# Altium footprint library MainLibrary.PcbLib: 35 footprints (part 1 of 3)
Each footprint in its own frame and in the unit in brackets; x right, y up, seen from the top. Pads: shape width x height; smd on the part's side, far side on the other; paste and mask are expansions set on the pad; w line width, h text height; cw(c..) or ccw(c..) is an arc to the next point about the centre after c.
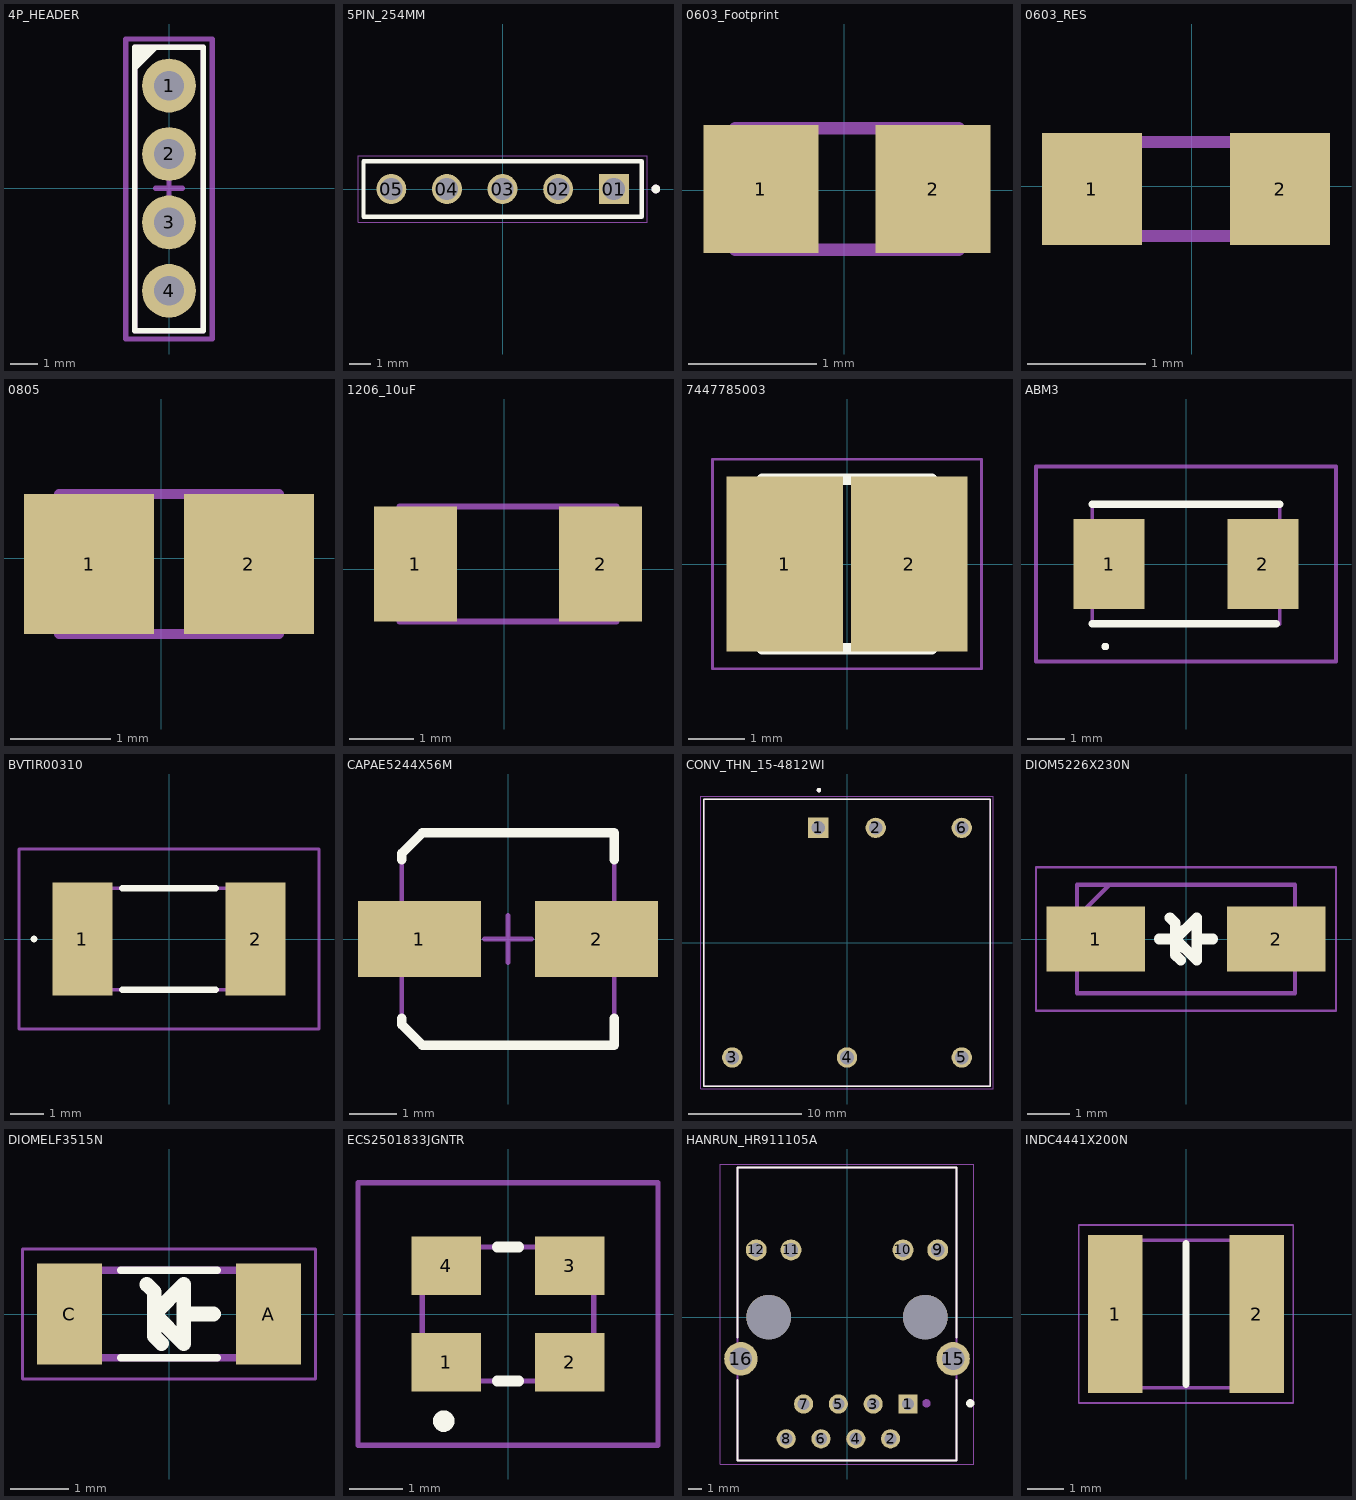
[diagram p0: the footprints below, top view; thin cyan lines are the x and y axes]

## 4P_HEADER [mm]
pads (4):
  round 2 hole 1.1: 1(0,3.809) 2(0,1.269) 3(0,-1.271) 4(0,-3.811)
Top Overlay:
  region: -1.23,5.269 -1.23,4.369 -0.33,5.269
  lines w0.2: -1.27,-5.301 -1.27,5.239 1.27,5.239 1.27,-5.301 -1.27,-5.301
Top Courtyard:
  lines w0.2: -1.6,-5.601 -1.6,5.539 1.6,5.539 1.6,-5.601 -1.6,-5.601
Top Assembly:
  lines w0.2: -0.5,-0.001 0.5,-0.001 ; 0,-0.501 0,0.499 ; -1.27,-5.301 -1.27,5.239 1.27,5.239 1.27,-5.301 -1.27,-5.301
3D body "M20-7820442.step": height 8.5, standoff -3, extent -1.25,-5.281 1.25,5.279

## 5PIN_254MM [mm]
pads (5):
  rect 1.37x1.37 hole 1.02: 01(5.08,0)
  round 1.37 hole 1.02: 02(2.54,0) 03(0,0) 04(-2.54,0) 05(-5.08,0)
Top Overlay:
  circle w0.2: c7,0 r0.1
  lines w0.2: -6.35,-1.27 6.35,-1.27 6.35,1.27 -6.35,1.27 -6.35,-1.27
Mechanical 13:
  circle w0.2: c7,0 r0.1
  lines w0.1: -6.35,-1.27 -6.35,1.27 ; -6.35,-1.27 6.35,-1.27 ; -6.35,-1.27 -6.35,1.27 ; -6.35,1.27 6.35,1.27 ; -6.35,1.27 6.35,1.27 ; 6.35,-1.27 6.35,1.27 ; 6.35,-1.27 6.35,1.27
Mechanical 15:
  lines w0.05: -6.6,-1.52 6.6,-1.52 6.6,1.52 -6.6,1.52 -6.6,-1.52

## 0603_Footprint [mm]
pads (2):
  rect 0.9x1 smd: 1(-0.655,0.01) 2(0.695,0.01)
Mechanical 13:
  lines w0.1: -0.855,-0.465 0.895,-0.465 0.895,0.485 -0.855,0.485 -0.855,-0.465
3D body "0603 cap.STEP": height 0.82, standoff 0, extent -0.78,-0.401 0.82,0.423

## 0603_RES [mm]
pads (2):
  rect 0.85x0.95 smd: 1(-0.85,-0.023) 2(0.75,-0.023)
Mechanical 13:
  lines w0.1: -0.85,-0.423 -0.85,0.377 0.75,0.377 0.75,-0.423 -0.85,-0.423
3D body "0603 resistor.STEP": height 0.45, standoff 0, extent -0.845,-0.395 0.755,0.405

## 0805 [mm]
pads (2):
  rect 1.3x1.4 smd: 1(-0.721,-0.06) 2(0.879,-0.06)
Mechanical 13:
  lines w0.1: -1.021,-0.76 1.179,-0.76 1.179,0.64 -1.021,0.64 -1.021,-0.76
3D body "0805 cap.STEP": height 1.26, standoff -0.02, extent -0.921,-0.697 1.079,0.577

## 1206_10uF [mm]
pads (2):
  rect 1.3x1.8 smd: 1(-1.394,0.086) 2(1.506,0.086)
Mechanical 13:
  lines w0.1: -1.644,-0.814 -1.644,0.986 1.756,0.986 1.756,-0.814 -1.644,-0.814
3D body "CAP 1206-0.8mm.STEP": height 0.8, standoff 0, extent -1.544,-0.714 1.656,0.886

## 7447785003 [mm]
pads (2):
  rect 2.05x3.1 smd: 1(-1.1,0) 2(1.1,0)
Top Overlay:
  lines w0.2: -1.5,-1.5 1.5,-1.5 ; -1.5,1.5 1.5,1.5
Mechanical 13:
  lines w0.1: -1.5,-1.5 -1.5,1.5 1.5,1.5 1.5,-1.5 -1.5,-1.5
Mechanical 15:
  lines w0.05: -2.375,-1.85 -2.375,1.85 2.375,1.85 2.375,-1.85 -2.375,-1.85
3D body "74438336033.stp": height 2, standoff 0, extent -1.5,-1.5 1.5,1.5

## ABM3 [mm]
pads (2):
  rect 1.9x2.4 smd: 1(-2.05,0) 2(2.05,0)
Top Overlay:
  lines w0.1: -2.2,-2.2 cw(c-2.15,-2.2) -2.1,-2.2 cw(c-2.15,-2.2) -2.2,-2.2
  lines w0.2: -2.5,-1.6 2.4,-1.6 ; -2.5,1.6 2.5,1.6
Mechanical 13:
  lines w0.1: -2.5,-1.6 -2.5,1.6 2.5,1.6 2.5,-1.6 -2.5,-1.6
Mechanical 15:
  lines w0.1: -4,-2.6 -4,2.6 4,2.6 4,-2.6 -4,-2.6
3D body "ABM3-8.000MHZ-D2Y-T.stp": height 1.3, standoff 0, extent -2.5,-1.6 2.5,1.6

## BVTIR00310 [mm]
pads (2):
  rect 1.8x3.4 smd: 1(-2.6,0) 2(2.6,0)
Top Overlay:
  lines w0.1: -4.1,0 ccw(c-4.05,0) -4,0 ccw(c-4.05,0) -4.1,0
  lines w0.2: -1.4,-1.525 1.4,-1.525 ; -1.4,1.525 1.4,1.525
Mechanical 13:
  lines w0.1: -3.175,-1.525 3.175,-1.525 3.175,1.525 -3.175,1.525 -3.175,-1.525
Mechanical 15:
  lines w0.1: -4.5,-2.7 4.5,-2.7 4.5,2.7 -4.5,2.7 -4.5,-2.7

## CAPAE5244X56M [mm] "Aluminum Electrolytic Capacitor, Body 4,40x4,40x5,60mm, IPC Low Density"
height 5.6
pads (2):
  rect 2.6x1.6 smd: 1(-1.875,0) 2(1.875,0)
Top Overlay:
  lines w0.2: -2.25,-1.675 -2.25,-1.812 -1.813,-2.25 2.25,-2.25 2.25,-1.675 ; -2.25,1.675 -2.25,1.813 -1.813,2.25 2.25,2.25 2.25,1.675
Mechanical 13:
  lines w0.1: -2.25,-1.812 -1.813,-2.25 2.25,-2.25 2.25,2.25 -1.813,2.25 -2.25,1.813 -2.25,-1.812
Mechanical 15:
  lines w0.1: -0.5,0 0.5,0 ; 0,-0.5 0,0.5
3D body: height 1.87, standoff 0, extent -2.25,-2.25 2.25,2.25
3D body: height 5.6, standoff 0, extent -2.25,-2.25 2.25,2.25

## CONV_THN_15-4812WI [mm]
pads (6):
  rect 1.8x1.8 hole 1.2: 1(-2.54,10.16)
  round 1.8 hole 1.2: 2(2.54,10.16) 3(-10.16,-10.16) 4(0,-10.16) 5(10.16,-10.16) 6(10.16,10.16)
Top Overlay:
  circle w0.2: c-2.48,13.502 r0.1
  lines w0.127: -12.7,-12.7 -12.7,12.7 12.7,12.7 12.7,-12.7 -12.7,-12.7
Mechanical 13:
  circle w0.2: c-2.48,13.502 r0.1
  lines w0.127: -12.7,-12.7 -12.7,12.7 12.7,12.7 12.7,-12.7 -12.7,-12.7
Mechanical 15:
  lines w0.05: -12.95,-12.95 -12.95,12.95 12.95,12.95 12.95,-12.95 -12.95,-12.95
3D body "THN 15-4812WI.STEP": height 10, standoff -5.5, extent -12.7,-12.7 12.7,12.7

## DIOM5226X230N [mm]
pads (2):
  rect 2.35x1.55 smd: 1(-2.15,0) 2(2.15,0)
Top Overlay:
  lines w0.254: -0.635,0 -0.254,0 ; -0.381,0.508 -0.254,0.381 -0.254,0 ; -0.127,-0.508 -0.254,-0.381 -0.254,0 ; 0.254,0 0.635,0 ; -0.254,0 0.254,0.508 0.254,-0.508 -0.254,0
Mechanical 13:
  lines w0.1: -2.598,0.518 -1.822,1.292 ; -2.598,-1.292 2.598,-1.292 2.598,1.292 -2.598,1.292 -2.598,-1.292
Mechanical 15:
  lines w0.05: -3.575,-1.71 3.575,-1.71 3.575,1.71 -3.575,1.71 -3.575,-1.71
3D body "SMAJ30A-TP.stp": height 2.26, standoff 0, extent -2.698,-1.403 2.702,1.397

## DIOMELF3515N [mm]
pads (2):
  rect 1.11x1.73 smd: A(1.705,0) C(-1.705,0)
Top Overlay:
  lines w0.127: -0.83,-0.75 0.83,-0.75 ; -0.83,0.75 0.83,0.75
  lines w0.254: -0.381,0.508 -0.254,0.381 -0.254,0 ; -0.127,-0.508 -0.254,-0.381 -0.254,0 ; 0.254,-0.381 0.254,-0.508 ; 0.254,0 0.762,0 ; -0.254,0 0.254,0.508 0.254,-0.508 ; -0.254,0 0.254,-0.508
Mechanical 13:
  lines w0.127: -1.75,-0.75 -1.75,0.75 1.75,0.75 1.75,-0.75 -1.75,-0.75
Mechanical 15:
  lines w0.05: -2.51,-1.115 -2.51,1.115 2.51,1.115 2.51,-1.115 -2.51,-1.115
3D body "BZV55C47 L1.STEP": height 1.6, standoff 0, extent -1.75,-0.762 1.75,0.826

## ECS2501833JGNTR [mm]
pads (4):
  rect 1.3x1.1 smd: 1(-1.15,-0.9) 2(1.15,-0.9) 3(1.15,0.9) 4(-1.15,0.9)
Top Overlay:
  lines w0.2: -0.2,-1.25 0.2,-1.25 ; -0.2,1.25 0.2,1.25 ; -1.2,-2.1 ccw(c-1.2,-2) -1.2,-1.9 ccw(c-1.2,-2) -1.2,-2.1
Mechanical 13:
  lines w0.1: -1.6,-1.25 -1.6,1.25 1.6,1.25 1.6,-1.25 -1.6,-1.25
Mechanical 15:
  lines w0.1: -2.8,-2.45 -2.8,2.45 2.8,2.45 2.8,-2.45 -2.8,-2.45
3D body "ECS-250-18-33-JGN-TR.stp": height 0.9, standoff 0, extent -1.69,-1.34 1.69,1.34

## HANRUN_HR911105A [mm]
pads (16):
  rect 1.398x1.398 / inner round 1.398 / far side rect 1.398x1.398 hole 0.89: 1(4.45,-6.35)
  round 1.398 hole 0.89: 2(3.18,-8.89) 3(1.91,-6.35) 4(0.64,-8.89) 5(-0.63,-6.35) 6(-1.9,-8.89) 7(-3.17,-6.35) 8(-4.44,-8.89)
  round 1.53 hole 1.02: 9(6.625,4.9) 10(4.085,4.9) 11(-4.085,4.9) 12(-6.625,4.9)
  round 2.445 hole 1.63: 15(7.745,-3.05) 16(-7.745,-3.05)
  round 3.25 hole 3.25 unplated: ""(-5.715,0) ""(5.715,0)
Top Overlay:
  circle w0.3: c9,-6.3 r0.15
  lines w0.127: -8,-4.6 -8,-10.48 8,-10.48 8,-4.6 ; -8,-1.5 -8,10.92 8,10.92 8,-1.5
Mechanical 13:
  circle w0.3: c5.8,-6.3 r0.15
  lines w0.127: -8,-10.48 8,-10.48 8,10.92 -8,10.92 -8,-10.48
Mechanical 15:
  lines w0.05: -9.25,-10.73 9.25,-10.73 9.25,11.17 -9.25,11.17 -9.25,-10.73
3D body "step_temp.STEP": height 13.5, standoff -3.05, extent -8.02,-10.38 8.02,10.92

## INDC4441X200N [mm]
pads (2):
  rect 1.5x4.35 smd: 1(-1.95,0) 2(1.95,0)
Top Overlay:
  lines w0.2: 0,-1.93 0,1.93
Mechanical 13:
  lines w0.1: -2.225,-2.03 -2.225,2.03 2.225,2.03 2.225,-2.03 -2.225,-2.03
Mechanical 15:
  lines w0.05: -2.95,-2.45 -2.95,2.45 2.95,2.45 2.95,-2.45 -2.95,-2.45
3D body "SRP4020TA-2R2M.stp": height 2, standoff 0, extent -2.225,-2.03 2.225,2.03